# EAGLE library part BM04B-SRSS-TB (library ds_con)
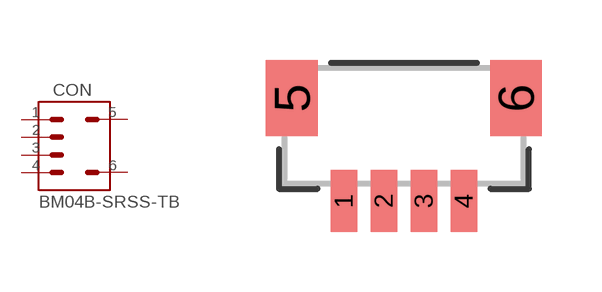
[diagram p14: symbol with the pads of JST4; footprint JST4]

Designator prefix CON

## BM04B-SRSS-TB (DESCRIPTION: -25℃~+85℃ 1 1A 1mm 1x4P 3.6mm 4 4.25mm 4P 50V 6mm Auxiliary Solder Pin Copper Alloy PA SH Surface Mount,Vertical Tin UL94V-0 White SMD,P=1mm Wire To Board Connector ROHS; HQ_PART: ZHLM0030963; LCSC_PART: C160390; MANUFACTURER: JST Sales America Inc.; MPN: BM04B-SRSS-TB; ROHS: YES; VALUE: BM04B-SRSS-TB)  [JST4]
1  P$1
2  P$2
3  P$3
4  P$4
5  SH1
6  SH2

## Footprint JST4 (pad centres in mm)
smd 0.66 x 1.549: 1 -1.5,-1.882; 2 -0.5,-1.882; 3 0.5,-1.882; 4 1.5,-1.882
smd 1.295 x 1.905: 5 -2.8,0.698; 6 2.8,0.698